# Altium footprint library J0011D01BNL.PcbLib: 1 footprints
Each footprint in its own frame and in the unit in brackets; x right, y up, seen from the top. Pads: shape width x height; smd on the part's side, far side on the other; paste and mask are expansions set on the pad; w line width, h text height; cw(c..) or ccw(c..) is an arc to the next point about the centre after c.
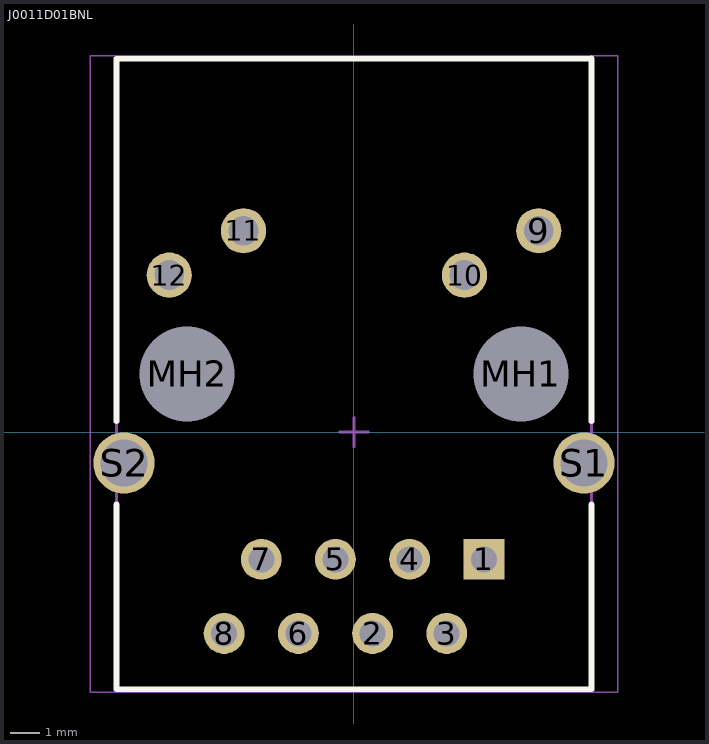
[diagram p0: the footprint, top view; thin cyan lines are the x and y axes]

## J0011D01BNL [mm]
pads (16):
  rect 1.4x1.4 hole 0.89: 1(4.445,-4.355)
  round 1.4 hole 0.89: 2(0.635,-6.895) 3(3.175,-6.895) 4(1.905,-4.355) 5(-0.635,-4.355) 6(-1.905,-6.895) 7(-3.175,-4.355) 8(-4.445,-6.895)
  round 1.55 hole 1.02: 9(6.325,6.895) 10(3.785,5.375) 11(-3.785,6.895) 12(-6.325,5.375)
  round 2.95 hole 3.25 unplated: MH1(5.715,1.995) MH2(-5.715,1.995)
  round 2.1 hole 1.6: S1(7.875,-1.055) S2(-7.875,-1.055)
Top Overlay:
  lines w0.2: -8.13,-2.482 -8.13,-8.805 8.13,-8.805 8.13,-2.482 ; -8.13,0.372 -8.13,12.785 8.13,12.785 8.13,0.372 ; 8.129,12.795 8.13,12.794
Mechanical 13:
  lines w0.1: -8.13,-8.805 -8.13,12.785 8.13,12.785 8.13,-8.805 -8.13,-8.805
Mechanical 15:
  lines w0.05: -9.025,-8.905 9.025,-8.905 9.025,12.885 -9.025,12.885 -9.025,-8.905
  lines w0.1: -0.5,0 0.5,0 ; 0,-0.5 0,0.5
3D body "J0011D01BNL_3D.STEP": height 13.74, standoff -3.4, extent -8.103,-8.759 8.128,12.823